# Altium footprint library lib_connectors.PcbLib: 17 footprints (part 2 of 2)
Each footprint in its own frame and in the unit in brackets; x right, y up, seen from the top. Pads: shape width x height; smd on the part's side, far side on the other; paste and mask are expansions set on the pad; w line width, h text height; cw(c..) or ccw(c..) is an arc to the next point about the centre after c.
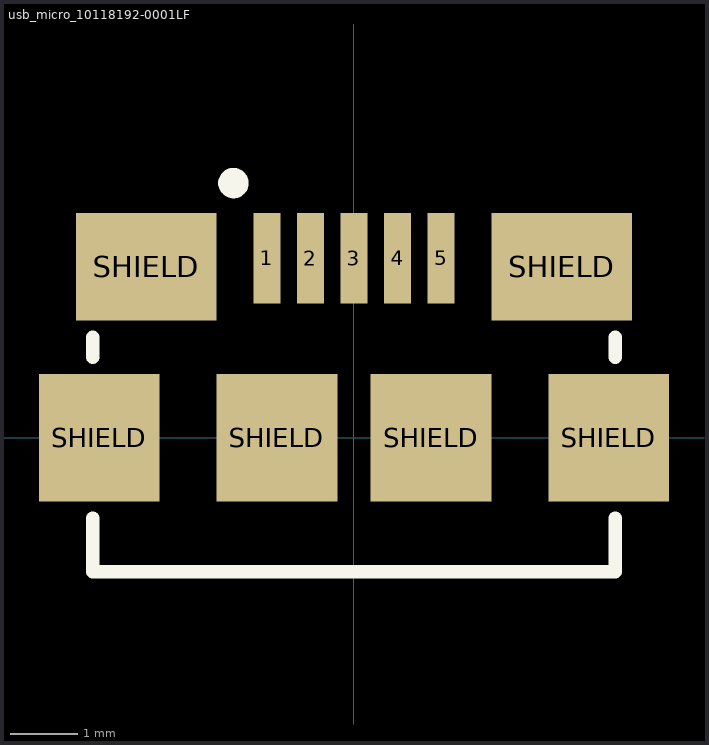
[diagram p1: the footprint, top view; thin cyan lines are the x and y axes]

## usb_micro_10118192-0001LF [mm] "10118192-0001LF"
pads (11):
  rect 0.4x1.35 smd: 1(-1.3,2.675) 2(-0.65,2.675) 3(0,2.675) 4(0.65,2.675) 5(1.3,2.675)
  rect 1.8x1.9 smd: SHIELD(-3.8,0) SHIELD(-1.15,0) SHIELD(1.15,0) SHIELD(3.8,0)
  rect 2.1x1.6 smd: SHIELD(-3.1,2.55) SHIELD(3.1,2.55)
Top Overlay:
  circle w0.254: c-1.8,3.8 r0.1
  lines w0.2: -3.9,-1.2 -3.9,-2 3.9,-2 3.9,-1.2 ; -3.9,1.2 -3.9,1.5 ; 3.9,1.2 3.9,1.5
3D body "10118192C.stp": height 2.79, standoff -0.22, extent -3.956,-2.7 3.956,2.96